# Altium integrated library Analog Devices Data Converters Analog-to-Digital Converters.IntLib: 2400 symbols (part 292 of 338)
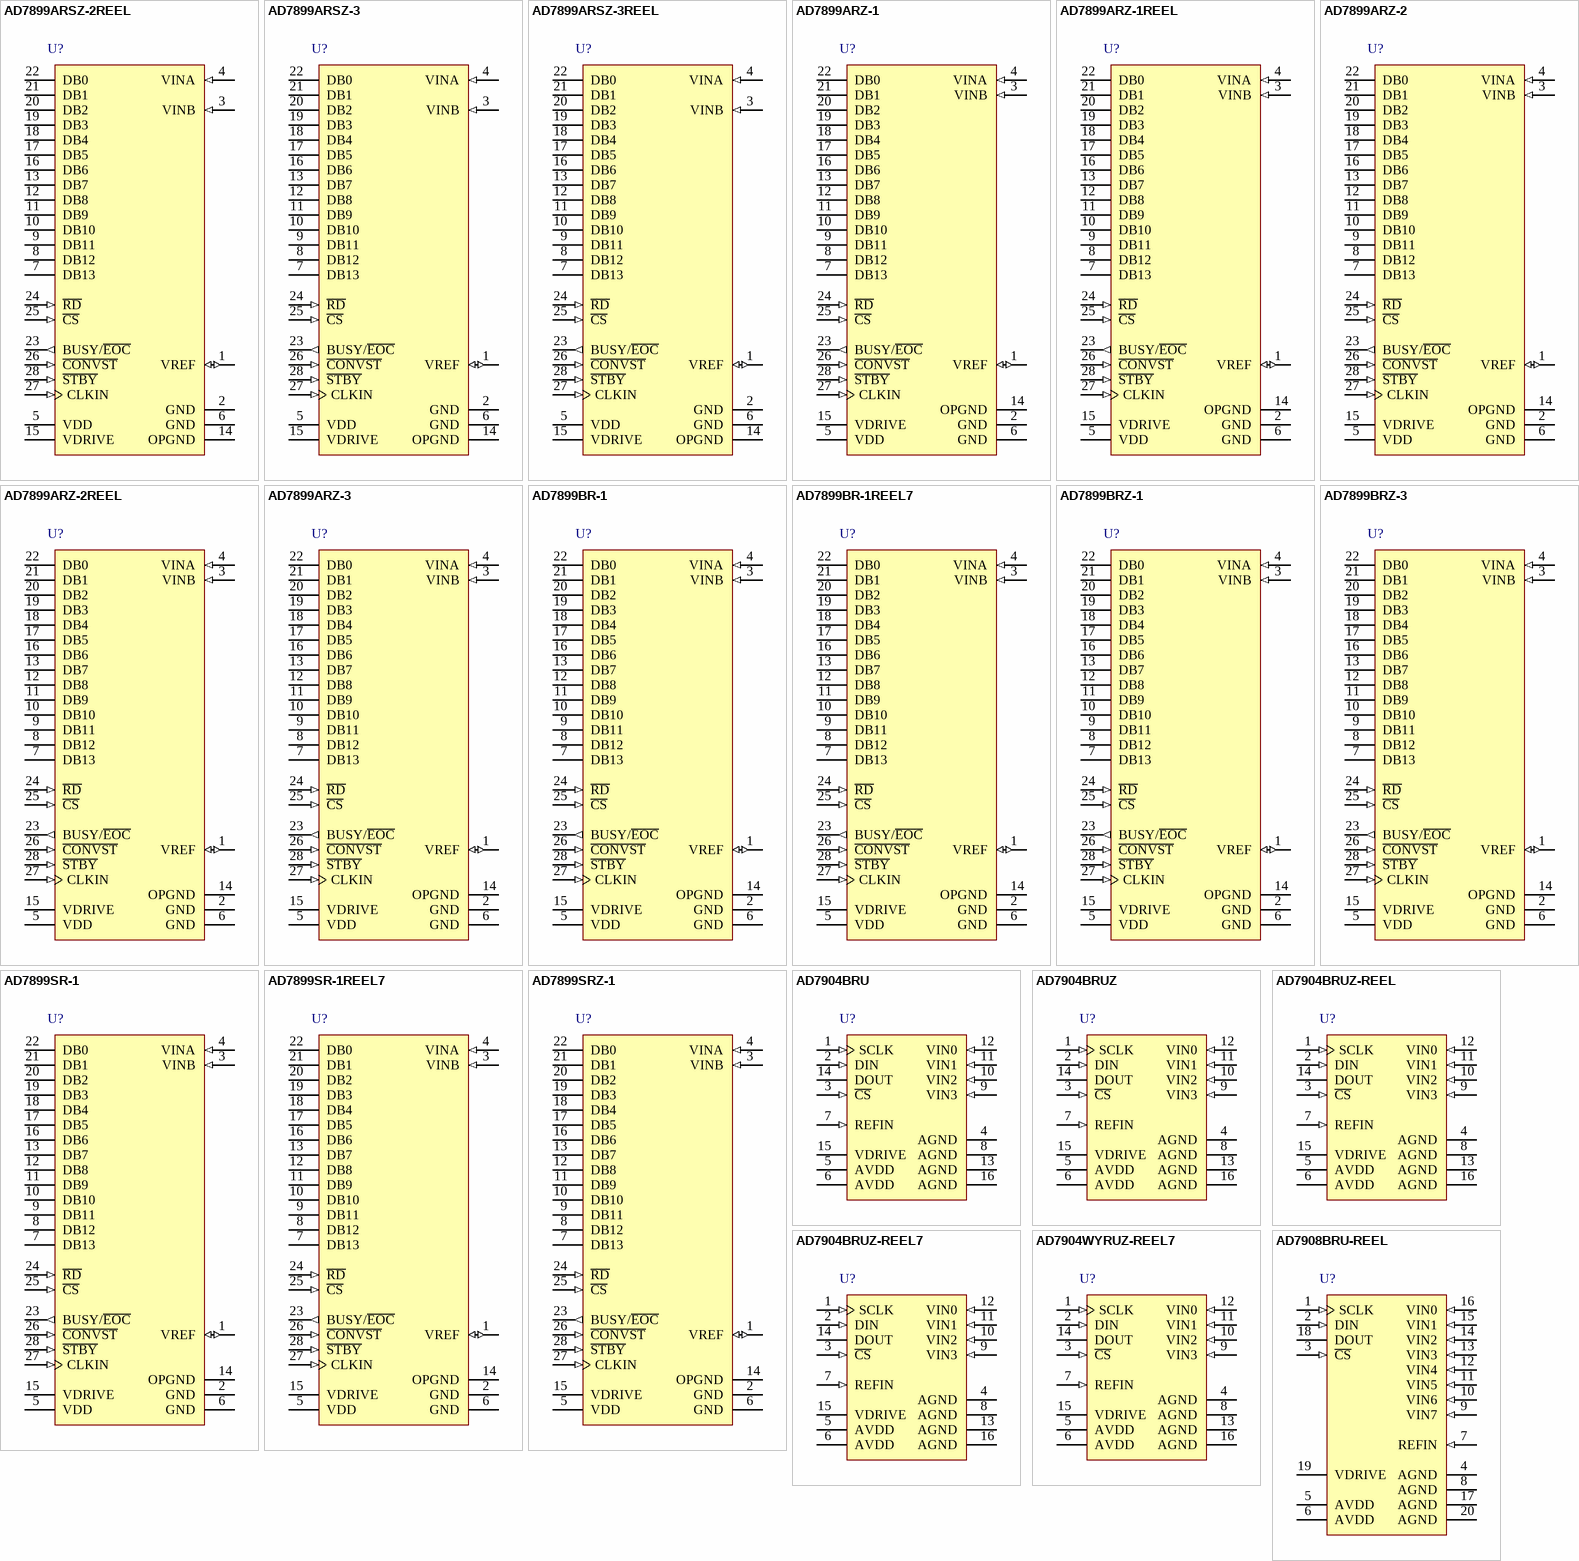
[diagram p314: symbols AD7899ARSZ-2REEL to AD7908BRU-REEL]

## AD7899SR-1
designator U?
Single 14-Bit Analog-to-Digital Converter with Parallel Interface, 5 V 400KSPS, -55 to +125 degC, RW-28, Tube; Part Number: AD7899; Manufacturer: Analog Devices; Resolution (Bits): 14; Channels: 1; Throughput Rate (SPS): 400K; Interface: Par; DatasheetVersion: Rev.A; PackageVersion: 060706-A; PackageReference: RW-28; PackageDescription: 28-Lead Standard Small Outline Package [SOIC_W]; RoHS: N; Packing: Tube; Mounting Technology: Surface Mount; Code_JEDEC: MS-013-AE; ComponentLink1Description: Manufacturer URL; ComponentLink1URL: http://www.analog.com/en/index.html; ComponentLink2Description: Datasheet; ComponentLink2URL: http://www.analog.com/static/imported-files/data_sheets/AD7899.pdf; ComponentLink3Description: Package Specification; ComponentLink3URL: http://www.analog.com/static/imported-files/packages/35833120341221RW_28.pdf; ComponentLink4Description: Product URL; ComponentLink4URL: http://www.analog.com/en/analog-to-digital-converters/ad-converters/ad7899/products/product.html
footprint RW-28_N (SOIC, 28-Leads, Body 17.9x7.5mm, Pitch 1.27mm, IPC Medium Density)
footprint RW-28_L (SOIC, 28-Leads, Body 17.9x7.5mm, Pitch 1.27mm, IPC High Density)
footprint RW-28_M (SOIC, 28-Leads, Body 17.9x7.5mm, Pitch 1.27mm, IPC Low Density)
pins: 1 VREF (io) "Reference Input/Output. This pin is provides access to the internal reference (2.5 V +/- 20 mV) and also allows the internal reference to be overdriven by an external reference source (2.5 V +/- 5%). A 0.1 uF decoupling (See Datasheet)", 2 GND (power) "Ground Pin. This pin should be connected to the system’s analog ground plane.", 3 VINB (in) "Analog Inputs. See Analog Input Section.", 4 VINA (in) "Analog Inputs. See Analog Input Section.", 5 VDD (power) "Positive Supply Voltage, 5.0 V +/- 5%.", 6 GND (power) "Ground Pin. This pin should be connected to the system’s analog ground plane.", 7 DB13 (hiz) "Data Bit 13 is the MSB, followed by Data Bit 12 to Data Bit 7. Three-state outputs.", 8 DB12 (hiz) "Data Bit 13 is the MSB, followed by Data Bit 12 to Data Bit 7. Three-state outputs.", 9 DB11 (hiz) "Data Bit 13 is the MSB, followed by Data Bit 12 to Data Bit 7. Three-state outputs.", 10 DB10 (hiz) "Data Bit 13 is the MSB, followed by Data Bit 12 to Data Bit 7. Three-state outputs.", 11 DB9 (hiz) "Data Bit 13 is the MSB, followed by Data Bit 12 to Data Bit 7. Three-state outputs.", 12 DB8 (hiz) "Data Bit 13 is the MSB, followed by Data Bit 12 to Data Bit 7. Three-state outputs.", 13 DB7 (hiz) "Data Bit 13 is the MSB, followed by Data Bit 12 to Data Bit 7. Three-state outputs.", 14 OPGND (power) "Output Driver Ground. This is the ground pin of the output drivers for D13 to D0 and BUSY/E\O\C\. It should be connected to the system’s analog ground plane .", 15 VDRIVE (power) "This pin provides the positive supply voltage for the digital inputs and outputs. It is normally tied to VDD but may also be powered by a 3 V +/- 10% supply which allows the inputs and outputs to be interfaced to 3 V (See Datasheet)", 16 DB6 (hiz) "Data Bit 6 to Data Bit 0. Three-state Outputs.", 17 DB5 (hiz) "Data Bit 6 to Data Bit 0. Three-state Outputs.", 18 DB4 (hiz) "Data Bit 6 to Data Bit 0. Three-state Outputs.", 19 DB3 (hiz) "Data Bit 6 to Data Bit 0. Three-state Outputs.", 20 DB2 (hiz) "Data Bit 6 to Data Bit 0. Three-state Outputs.", 21 DB1 (hiz) "Data Bit 6 to Data Bit 0. Three-state Outputs.", 22 DB0 (hiz) "Data Bit 6 to Data Bit 0. Three-state Outputs.", 23 BUSY/~{EOC} (out) "BUSY/E\O\C\ Output. Digital output pin used to signify that a conversion is in progress or that a conversion has finished. The function of the BUSY/E\O\C\ is determined by the state of C\O\N\V\S\T\ at the end of conversion. (See Datasheet)", 24 ~{RD} (in) "Read Input. Active low logic input which is used in conjunction with C\S\ low to enable the data outputs.", 25 ~{CS} (in) "Chip Select Input. Active low logic input. The device is selected when this input is active.", 26 ~{CONVST} (in) "Convert Start Input. Logic Input. A low to high transition on this input puts the track/hold into hold mode and starts conversion.", 27 CLKIN (in) "Conversion Clock Input. CLKIN is an externally applied clock which allows the user to control the conversion rate of the AD7899. If the CLKIN input is high on the rising edge of C\O\N\V\S\T\ an externally applied clock will (See Datasheet)", 28 ~{STBY} (in) "Standby Mode Input. Logic input which is used to put the device into the power save or standby mode. The S\T\B\Y\ input is high for normal operation and low for standby operation."

## AD7899SR-1REEL7
designator U?
Single 14-Bit Analog-to-Digital Converter with Parallel Interface, 5 V 400KSPS, -55 to +125 degC, RW-28, Reel; Part Number: AD7899; Manufacturer: Analog Devices; Resolution (Bits): 14; Channels: 1; Throughput Rate (SPS): 400K; Interface: Par; DatasheetVersion: Rev.A; PackageVersion: 060706-A; PackageReference: RW-28; PackageDescription: 28-Lead Standard Small Outline Package [SOIC_W]; RoHS: N; Packing: Reel; Mounting Technology: Surface Mount; Code_JEDEC: MS-013-AE; ComponentLink1Description: Manufacturer URL; ComponentLink1URL: http://www.analog.com/en/index.html; ComponentLink2Description: Datasheet; ComponentLink2URL: http://www.analog.com/static/imported-files/data_sheets/AD7899.pdf; ComponentLink3Description: Package Specification; ComponentLink3URL: http://www.analog.com/static/imported-files/packages/35833120341221RW_28.pdf; ComponentLink4Description: Product URL; ComponentLink4URL: http://www.analog.com/en/analog-to-digital-converters/ad-converters/ad7899/products/product.html
footprint RW-28_N (SOIC, 28-Leads, Body 17.9x7.5mm, Pitch 1.27mm, IPC Medium Density)
footprint RW-28_L (SOIC, 28-Leads, Body 17.9x7.5mm, Pitch 1.27mm, IPC High Density)
footprint RW-28_M (SOIC, 28-Leads, Body 17.9x7.5mm, Pitch 1.27mm, IPC Low Density)
pins: 1 VREF (io) "Reference Input/Output. This pin is provides access to the internal reference (2.5 V +/- 20 mV) and also allows the internal reference to be overdriven by an external reference source (2.5 V +/- 5%). A 0.1 uF decoupling (See Datasheet)", 2 GND (power) "Ground Pin. This pin should be connected to the system’s analog ground plane.", 3 VINB (in) "Analog Inputs. See Analog Input Section.", 4 VINA (in) "Analog Inputs. See Analog Input Section.", 5 VDD (power) "Positive Supply Voltage, 5.0 V +/- 5%.", 6 GND (power) "Ground Pin. This pin should be connected to the system’s analog ground plane.", 7 DB13 (hiz) "Data Bit 13 is the MSB, followed by Data Bit 12 to Data Bit 7. Three-state outputs.", 8 DB12 (hiz) "Data Bit 13 is the MSB, followed by Data Bit 12 to Data Bit 7. Three-state outputs.", 9 DB11 (hiz) "Data Bit 13 is the MSB, followed by Data Bit 12 to Data Bit 7. Three-state outputs.", 10 DB10 (hiz) "Data Bit 13 is the MSB, followed by Data Bit 12 to Data Bit 7. Three-state outputs.", 11 DB9 (hiz) "Data Bit 13 is the MSB, followed by Data Bit 12 to Data Bit 7. Three-state outputs.", 12 DB8 (hiz) "Data Bit 13 is the MSB, followed by Data Bit 12 to Data Bit 7. Three-state outputs.", 13 DB7 (hiz) "Data Bit 13 is the MSB, followed by Data Bit 12 to Data Bit 7. Three-state outputs.", 14 OPGND (power) "Output Driver Ground. This is the ground pin of the output drivers for D13 to D0 and BUSY/E\O\C\. It should be connected to the system’s analog ground plane .", 15 VDRIVE (power) "This pin provides the positive supply voltage for the digital inputs and outputs. It is normally tied to VDD but may also be powered by a 3 V +/- 10% supply which allows the inputs and outputs to be interfaced to 3 V (See Datasheet)", 16 DB6 (hiz) "Data Bit 6 to Data Bit 0. Three-state Outputs.", 17 DB5 (hiz) "Data Bit 6 to Data Bit 0. Three-state Outputs.", 18 DB4 (hiz) "Data Bit 6 to Data Bit 0. Three-state Outputs.", 19 DB3 (hiz) "Data Bit 6 to Data Bit 0. Three-state Outputs.", 20 DB2 (hiz) "Data Bit 6 to Data Bit 0. Three-state Outputs.", 21 DB1 (hiz) "Data Bit 6 to Data Bit 0. Three-state Outputs.", 22 DB0 (hiz) "Data Bit 6 to Data Bit 0. Three-state Outputs.", 23 BUSY/~{EOC} (out) "BUSY/E\O\C\ Output. Digital output pin used to signify that a conversion is in progress or that a conversion has finished. The function of the BUSY/E\O\C\ is determined by the state of C\O\N\V\S\T\ at the end of conversion. (See Datasheet)", 24 ~{RD} (in) "Read Input. Active low logic input which is used in conjunction with C\S\ low to enable the data outputs.", 25 ~{CS} (in) "Chip Select Input. Active low logic input. The device is selected when this input is active.", 26 ~{CONVST} (in) "Convert Start Input. Logic Input. A low to high transition on this input puts the track/hold into hold mode and starts conversion.", 27 CLKIN (in) "Conversion Clock Input. CLKIN is an externally applied clock which allows the user to control the conversion rate of the AD7899. If the CLKIN input is high on the rising edge of C\O\N\V\S\T\ an externally applied clock will (See Datasheet)", 28 ~{STBY} (in) "Standby Mode Input. Logic input which is used to put the device into the power save or standby mode. The S\T\B\Y\ input is high for normal operation and low for standby operation."

## AD7899SRZ-1
designator U?
Single 14-Bit Analog-to-Digital Converter with Parallel Interface, 5 V 400KSPS, -55 to +125 degC, RW-28, Pb-Free, Tube; Part Number: AD7899; Manufacturer: Analog Devices; Resolution (Bits): 14; Channels: 1; Throughput Rate (SPS): 400K; Interface: Par; DatasheetVersion: Rev.A; PackageVersion: 060706-A; PackageReference: RW-28; PackageDescription: 28-Lead Standard Small Outline Package [SOIC_W]; RoHS: Y; Packing: Tube; Mounting Technology: Surface Mount; Code_JEDEC: MS-013-AE; ComponentLink1Description: Manufacturer URL; ComponentLink1URL: http://www.analog.com/en/index.html; ComponentLink2Description: Datasheet; ComponentLink2URL: http://www.analog.com/static/imported-files/data_sheets/AD7899.pdf; ComponentLink3Description: Package Specification; ComponentLink3URL: http://www.analog.com/static/imported-files/packages/35833120341221RW_28.pdf; ComponentLink4Description: Product URL; ComponentLink4URL: http://www.analog.com/en/analog-to-digital-converters/ad-converters/ad7899/products/product.html
footprint RW-28_N (SOIC, 28-Leads, Body 17.9x7.5mm, Pitch 1.27mm, IPC Medium Density)
footprint RW-28_L (SOIC, 28-Leads, Body 17.9x7.5mm, Pitch 1.27mm, IPC High Density)
footprint RW-28_M (SOIC, 28-Leads, Body 17.9x7.5mm, Pitch 1.27mm, IPC Low Density)
pins: 1 VREF (io) "Reference Input/Output. This pin is provides access to the internal reference (2.5 V +/- 20 mV) and also allows the internal reference to be overdriven by an external reference source (2.5 V +/- 5%). A 0.1 uF decoupling (See Datasheet)", 2 GND (power) "Ground Pin. This pin should be connected to the system’s analog ground plane.", 3 VINB (in) "Analog Inputs. See Analog Input Section.", 4 VINA (in) "Analog Inputs. See Analog Input Section.", 5 VDD (power) "Positive Supply Voltage, 5.0 V +/- 5%.", 6 GND (power) "Ground Pin. This pin should be connected to the system’s analog ground plane.", 7 DB13 (hiz) "Data Bit 13 is the MSB, followed by Data Bit 12 to Data Bit 7. Three-state outputs.", 8 DB12 (hiz) "Data Bit 13 is the MSB, followed by Data Bit 12 to Data Bit 7. Three-state outputs.", 9 DB11 (hiz) "Data Bit 13 is the MSB, followed by Data Bit 12 to Data Bit 7. Three-state outputs.", 10 DB10 (hiz) "Data Bit 13 is the MSB, followed by Data Bit 12 to Data Bit 7. Three-state outputs.", 11 DB9 (hiz) "Data Bit 13 is the MSB, followed by Data Bit 12 to Data Bit 7. Three-state outputs.", 12 DB8 (hiz) "Data Bit 13 is the MSB, followed by Data Bit 12 to Data Bit 7. Three-state outputs.", 13 DB7 (hiz) "Data Bit 13 is the MSB, followed by Data Bit 12 to Data Bit 7. Three-state outputs.", 14 OPGND (power) "Output Driver Ground. This is the ground pin of the output drivers for D13 to D0 and BUSY/E\O\C\. It should be connected to the system’s analog ground plane .", 15 VDRIVE (power) "This pin provides the positive supply voltage for the digital inputs and outputs. It is normally tied to VDD but may also be powered by a 3 V +/- 10% supply which allows the inputs and outputs to be interfaced to 3 V (See Datasheet)", 16 DB6 (hiz) "Data Bit 6 to Data Bit 0. Three-state Outputs.", 17 DB5 (hiz) "Data Bit 6 to Data Bit 0. Three-state Outputs.", 18 DB4 (hiz) "Data Bit 6 to Data Bit 0. Three-state Outputs.", 19 DB3 (hiz) "Data Bit 6 to Data Bit 0. Three-state Outputs.", 20 DB2 (hiz) "Data Bit 6 to Data Bit 0. Three-state Outputs.", 21 DB1 (hiz) "Data Bit 6 to Data Bit 0. Three-state Outputs.", 22 DB0 (hiz) "Data Bit 6 to Data Bit 0. Three-state Outputs.", 23 BUSY/~{EOC} (out) "BUSY/E\O\C\ Output. Digital output pin used to signify that a conversion is in progress or that a conversion has finished. The function of the BUSY/E\O\C\ is determined by the state of C\O\N\V\S\T\ at the end of conversion. (See Datasheet)", 24 ~{RD} (in) "Read Input. Active low logic input which is used in conjunction with C\S\ low to enable the data outputs.", 25 ~{CS} (in) "Chip Select Input. Active low logic input. The device is selected when this input is active.", 26 ~{CONVST} (in) "Convert Start Input. Logic Input. A low to high transition on this input puts the track/hold into hold mode and starts conversion.", 27 CLKIN (in) "Conversion Clock Input. CLKIN is an externally applied clock which allows the user to control the conversion rate of the AD7899. If the CLKIN input is high on the rising edge of C\O\N\V\S\T\ an externally applied clock will (See Datasheet)", 28 ~{STBY} (in) "Standby Mode Input. Logic input which is used to put the device into the power save or standby mode. The S\T\B\Y\ input is high for normal operation and low for standby operation."

## AD7904BRU
designator U?
Quad 8-Bit Analog-to-Digital Converter with Serial, SPI Interface and Sequencer, 1MSPS, -40 to +85 degC, RU-16, Tube; Part Number: AD7904; Manufacturer: Analog Devices; Resolution (Bits): 8; Channels: 4; Throughput Rate (SPS): 1M; Interface: Ser, SPI; Automotive Qualified: Yes; DatasheetVersion: Rev.B; PackageVersion: Nov-2002; PackageReference: RU-16; PackageDescription: 16-Lead Thin Shrink Small Outline Package [TSSOP]; RoHS: N; Packing: Tube; Mounting Technology: Surface Mount; Code_JEDEC: MO-153-AB; ComponentLink1Description: Manufacturer URL; ComponentLink1URL: http://www.analog.com/en/index.html; ComponentLink2Description: Datasheet; ComponentLink2URL: http://www.analog.com/static/imported-files/data_sheets/AD7904_7914_7924.pdf; ComponentLink3Description: Package Specification; ComponentLink3URL: http://www.analog.com/static/imported-files/packages/36244347913743854010197452789RU16.pdf; ComponentLink4Description: Product URL; ComponentLink4URL: http://www.analog.com/en/analog-to-digital-converters/ad-converters/ad7904/products/product.html
footprint RU-16_N (TSOP, 16-Leads, Body 5x4.4mm, Pitch 0.65mm, IPC Medium Density)
footprint RU-16_L (TSOP, 16-Leads, Body 5x4.4mm, Pitch 0.65mm, IPC High Density)
footprint RU-16_M (TSOP, 16-Leads, Body 5x4.4mm, Pitch 0.65mm, IPC Low Density)
pins: 1 SCLK (in) "Serial Clock, Logic Input. SCLK provides the serial clock for accessing data from the part. This clock input is also used as the clock source for the AD7904/AD7914/AD7924 conversion process.", 2 DIN (in) "Data In, Logic Input. Data to be written to the control register of the AD7904/AD7914/AD7924 is provided on this input and is clocked into the register on the falling edge of SCLK (see the Control Register section).", 3 ~{CS} (in) "Chip Select. Active low logic input. This input provides the dual function of initiating conversions on the AD7904/AD7914/AD7924 and frames the serial data transfer.", 4 AGND (power) "Analog Ground. Ground reference point for all analog circuitry on the AD7904/AD7914/AD7924. All analog input signals and any external reference signal should be referred to this AGND voltage. All AGND pins should be (See Datasheet)", 5 AVDD (power) "Analog Power Supply Input. The AVDD range for the AD7904/AD7914/AD7924 is from 2.7 V to 5.25 V. For the 0 V to 2 x REFIN range, AVDD should be from 4.75 V to 5.25 V.", 6 AVDD (power) "Analog Power Supply Input. The AVDD range for the AD7904/AD7914/AD7924 is from 2.7 V to 5.25 V. For the 0 V to 2 x REFIN range, AVDD should be from 4.75 V to 5.25 V.", 7 REFIN (in) "Reference Input for the AD7904/AD7914/AD7924. An external reference must be applied to this input. The voltage range for the external reference is 2.5 V +/- 1% for specified performance.", 8 AGND (power) "Analog Ground. Ground reference point for all analog circuitry on the AD7904/AD7914/AD7924. All analog input signals and any external reference signal should be referred to this AGND voltage. All AGND pins should be (See Datasheet)", 9 VIN3 (in) "Analog Input 0 through Analog Input 3. The four single-ended analog input channels are multiplexed into the on-chip track-and-hold. The analog input channel to be converted is selected using the address bits ADD1 and ADD0 of (See Datasheet)", 10 VIN2 (in) "Analog Input 0 through Analog Input 3. The four single-ended analog input channels are multiplexed into the on-chip track-and-hold. The analog input channel to be converted is selected using the address bits ADD1 and ADD0 of (See Datasheet)", 11 VIN1 (in) "Analog Input 0 through Analog Input 3. The four single-ended analog input channels are multiplexed into the on-chip track-and-hold. The analog input channel to be converted is selected using the address bits ADD1 and ADD0 of (See Datasheet)", 12 VIN0 (in) "Analog Input 0 through Analog Input 3. The four single-ended analog input channels are multiplexed into the on-chip track-and-hold. The analog input channel to be converted is selected using the address bits ADD1 and ADD0 of (See Datasheet)", 13 AGND (power) "Analog Ground. Ground reference point for all analog circuitry on the AD7904/AD7914/AD7924. All analog input signals and any external reference signal should be referred to this AGND voltage. All AGND pins should be (See Datasheet)", 14 DOUT (hiz) "Data Out, Logic Output. The conversion result from the AD7904/AD7914/AD7924 is provided on this output as a serial data stream. The bits are clocked out on the falling edge of the SCLK input. The data stream from the AD7904 (See Datasheet)", 15 VDRIVE (power) "Logic Power Supply Input. The voltage supplied at this pin determines the voltage at which the serial interface of the AD7904/AD7914/AD7924 operates.", 16 AGND (power) "Analog Ground. Ground reference point for all analog circuitry on the AD7904/AD7914/AD7924. All analog input signals and any external reference signal should be referred to this AGND voltage. All AGND pins should be (See Datasheet)"

## AD7904BRUZ
designator U?
Quad 8-Bit Analog-to-Digital Converter with Serial, SPI Interface and Sequencer, 1MSPS, 0 to +70 degC, RU-16, Pb-Free, Tube; Part Number: AD7904; Manufacturer: Analog Devices; Resolution (Bits): 8; Channels: 4; Throughput Rate (SPS): 1M; Interface: Ser, SPI; Automotive Qualified: Yes; DatasheetVersion: Rev.B; PackageVersion: Nov-2002; PackageReference: RU-16; PackageDescription: 16-Lead Thin Shrink Small Outline Package [TSSOP]; RoHS: Y; Packing: Tube; Mounting Technology: Surface Mount; Code_JEDEC: MO-153-AB; ComponentLink1Description: Manufacturer URL; ComponentLink1URL: http://www.analog.com/en/index.html; ComponentLink2Description: Datasheet; ComponentLink2URL: http://www.analog.com/static/imported-files/data_sheets/AD7904_7914_7924.pdf; ComponentLink3Description: Package Specification; ComponentLink3URL: http://www.analog.com/static/imported-files/packages/36244347913743854010197452789RU16.pdf; ComponentLink4Description: Product URL; ComponentLink4URL: http://www.analog.com/en/analog-to-digital-converters/ad-converters/ad7904/products/product.html
footprint RU-16_N (TSOP, 16-Leads, Body 5x4.4mm, Pitch 0.65mm, IPC Medium Density)
footprint RU-16_L (TSOP, 16-Leads, Body 5x4.4mm, Pitch 0.65mm, IPC High Density)
footprint RU-16_M (TSOP, 16-Leads, Body 5x4.4mm, Pitch 0.65mm, IPC Low Density)
pins: 1 SCLK (in) "Serial Clock, Logic Input. SCLK provides the serial clock for accessing data from the part. This clock input is also used as the clock source for the AD7904/AD7914/AD7924 conversion process.", 2 DIN (in) "Data In, Logic Input. Data to be written to the control register of the AD7904/AD7914/AD7924 is provided on this input and is clocked into the register on the falling edge of SCLK (see the Control Register section).", 3 ~{CS} (in) "Chip Select. Active low logic input. This input provides the dual function of initiating conversions on the AD7904/AD7914/AD7924 and frames the serial data transfer.", 4 AGND (power) "Analog Ground. Ground reference point for all analog circuitry on the AD7904/AD7914/AD7924. All analog input signals and any external reference signal should be referred to this AGND voltage. All AGND pins should be (See Datasheet)", 5 AVDD (power) "Analog Power Supply Input. The AVDD range for the AD7904/AD7914/AD7924 is from 2.7 V to 5.25 V. For the 0 V to 2 x REFIN range, AVDD should be from 4.75 V to 5.25 V.", 6 AVDD (power) "Analog Power Supply Input. The AVDD range for the AD7904/AD7914/AD7924 is from 2.7 V to 5.25 V. For the 0 V to 2 x REFIN range, AVDD should be from 4.75 V to 5.25 V.", 7 REFIN (in) "Reference Input for the AD7904/AD7914/AD7924. An external reference must be applied to this input. The voltage range for the external reference is 2.5 V +/- 1% for specified performance.", 8 AGND (power) "Analog Ground. Ground reference point for all analog circuitry on the AD7904/AD7914/AD7924. All analog input signals and any external reference signal should be referred to this AGND voltage. All AGND pins should be (See Datasheet)", 9 VIN3 (in) "Analog Input 0 through Analog Input 3. The four single-ended analog input channels are multiplexed into the on-chip track-and-hold. The analog input channel to be converted is selected using the address bits ADD1 and ADD0 of (See Datasheet)", 10 VIN2 (in) "Analog Input 0 through Analog Input 3. The four single-ended analog input channels are multiplexed into the on-chip track-and-hold. The analog input channel to be converted is selected using the address bits ADD1 and ADD0 of (See Datasheet)", 11 VIN1 (in) "Analog Input 0 through Analog Input 3. The four single-ended analog input channels are multiplexed into the on-chip track-and-hold. The analog input channel to be converted is selected using the address bits ADD1 and ADD0 of (See Datasheet)", 12 VIN0 (in) "Analog Input 0 through Analog Input 3. The four single-ended analog input channels are multiplexed into the on-chip track-and-hold. The analog input channel to be converted is selected using the address bits ADD1 and ADD0 of (See Datasheet)", 13 AGND (power) "Analog Ground. Ground reference point for all analog circuitry on the AD7904/AD7914/AD7924. All analog input signals and any external reference signal should be referred to this AGND voltage. All AGND pins should be (See Datasheet)", 14 DOUT (hiz) "Data Out, Logic Output. The conversion result from the AD7904/AD7914/AD7924 is provided on this output as a serial data stream. The bits are clocked out on the falling edge of the SCLK input. The data stream from the AD7904 (See Datasheet)", 15 VDRIVE (power) "Logic Power Supply Input. The voltage supplied at this pin determines the voltage at which the serial interface of the AD7904/AD7914/AD7924 operates.", 16 AGND (power) "Analog Ground. Ground reference point for all analog circuitry on the AD7904/AD7914/AD7924. All analog input signals and any external reference signal should be referred to this AGND voltage. All AGND pins should be (See Datasheet)"

## AD7904BRUZ-REEL
designator U?
Quad 8-Bit Analog-to-Digital Converter with Serial, SPI Interface and Sequencer, 1MSPS, 0 to +70 degC, RU-16, Pb-Free, Reel; Part Number: AD7904; Manufacturer: Analog Devices; Resolution (Bits): 8; Channels: 4; Throughput Rate (SPS): 1M; Interface: Ser, SPI; Automotive Qualified: Yes; DatasheetVersion: Rev.B; PackageVersion: Nov-2002; PackageReference: RU-16; PackageDescription: 16-Lead Thin Shrink Small Outline Package [TSSOP]; RoHS: Y; Packing: Reel; Mounting Technology: Surface Mount; Code_JEDEC: MO-153-AB; ComponentLink1Description: Manufacturer URL; ComponentLink1URL: http://www.analog.com/en/index.html; ComponentLink2Description: Datasheet; ComponentLink2URL: http://www.analog.com/static/imported-files/data_sheets/AD7904_7914_7924.pdf; ComponentLink3Description: Package Specification; ComponentLink3URL: http://www.analog.com/static/imported-files/packages/36244347913743854010197452789RU16.pdf; ComponentLink4Description: Product URL; ComponentLink4URL: http://www.analog.com/en/analog-to-digital-converters/ad-converters/ad7904/products/product.html
footprint RU-16_N (TSOP, 16-Leads, Body 5x4.4mm, Pitch 0.65mm, IPC Medium Density)
footprint RU-16_L (TSOP, 16-Leads, Body 5x4.4mm, Pitch 0.65mm, IPC High Density)
footprint RU-16_M (TSOP, 16-Leads, Body 5x4.4mm, Pitch 0.65mm, IPC Low Density)
pins: 1 SCLK (in) "Serial Clock, Logic Input. SCLK provides the serial clock for accessing data from the part. This clock input is also used as the clock source for the AD7904/AD7914/AD7924 conversion process.", 2 DIN (in) "Data In, Logic Input. Data to be written to the control register of the AD7904/AD7914/AD7924 is provided on this input and is clocked into the register on the falling edge of SCLK (see the Control Register section).", 3 ~{CS} (in) "Chip Select. Active low logic input. This input provides the dual function of initiating conversions on the AD7904/AD7914/AD7924 and frames the serial data transfer.", 4 AGND (power) "Analog Ground. Ground reference point for all analog circuitry on the AD7904/AD7914/AD7924. All analog input signals and any external reference signal should be referred to this AGND voltage. All AGND pins should be (See Datasheet)", 5 AVDD (power) "Analog Power Supply Input. The AVDD range for the AD7904/AD7914/AD7924 is from 2.7 V to 5.25 V. For the 0 V to 2 x REFIN range, AVDD should be from 4.75 V to 5.25 V.", 6 AVDD (power) "Analog Power Supply Input. The AVDD range for the AD7904/AD7914/AD7924 is from 2.7 V to 5.25 V. For the 0 V to 2 x REFIN range, AVDD should be from 4.75 V to 5.25 V.", 7 REFIN (in) "Reference Input for the AD7904/AD7914/AD7924. An external reference must be applied to this input. The voltage range for the external reference is 2.5 V +/- 1% for specified performance.", 8 AGND (power) "Analog Ground. Ground reference point for all analog circuitry on the AD7904/AD7914/AD7924. All analog input signals and any external reference signal should be referred to this AGND voltage. All AGND pins should be (See Datasheet)", 9 VIN3 (in) "Analog Input 0 through Analog Input 3. The four single-ended analog input channels are multiplexed into the on-chip track-and-hold. The analog input channel to be converted is selected using the address bits ADD1 and ADD0 of (See Datasheet)", 10 VIN2 (in) "Analog Input 0 through Analog Input 3. The four single-ended analog input channels are multiplexed into the on-chip track-and-hold. The analog input channel to be converted is selected using the address bits ADD1 and ADD0 of (See Datasheet)", 11 VIN1 (in) "Analog Input 0 through Analog Input 3. The four single-ended analog input channels are multiplexed into the on-chip track-and-hold. The analog input channel to be converted is selected using the address bits ADD1 and ADD0 of (See Datasheet)", 12 VIN0 (in) "Analog Input 0 through Analog Input 3. The four single-ended analog input channels are multiplexed into the on-chip track-and-hold. The analog input channel to be converted is selected using the address bits ADD1 and ADD0 of (See Datasheet)", 13 AGND (power) "Analog Ground. Ground reference point for all analog circuitry on the AD7904/AD7914/AD7924. All analog input signals and any external reference signal should be referred to this AGND voltage. All AGND pins should be (See Datasheet)", 14 DOUT (hiz) "Data Out, Logic Output. The conversion result from the AD7904/AD7914/AD7924 is provided on this output as a serial data stream. The bits are clocked out on the falling edge of the SCLK input. The data stream from the AD7904 (See Datasheet)", 15 VDRIVE (power) "Logic Power Supply Input. The voltage supplied at this pin determines the voltage at which the serial interface of the AD7904/AD7914/AD7924 operates.", 16 AGND (power) "Analog Ground. Ground reference point for all analog circuitry on the AD7904/AD7914/AD7924. All analog input signals and any external reference signal should be referred to this AGND voltage. All AGND pins should be (See Datasheet)"

## AD7904BRUZ-REEL7
designator U?
Quad 8-Bit Analog-to-Digital Converter with Serial, SPI Interface and Sequencer, 1MSPS, 0 to +70 degC, RU-16, Pb-Free, Reel; Part Number: AD7904; Manufacturer: Analog Devices; Resolution (Bits): 8; Channels: 4; Throughput Rate (SPS): 1M; Interface: Ser, SPI; Automotive Qualified: Yes; DatasheetVersion: Rev.B; PackageVersion: Nov-2002; PackageReference: RU-16; PackageDescription: 16-Lead Thin Shrink Small Outline Package [TSSOP]; RoHS: Y; Packing: Reel; Mounting Technology: Surface Mount; Code_JEDEC: MO-153-AB; ComponentLink1Description: Manufacturer URL; ComponentLink1URL: http://www.analog.com/en/index.html; ComponentLink2Description: Datasheet; ComponentLink2URL: http://www.analog.com/static/imported-files/data_sheets/AD7904_7914_7924.pdf; ComponentLink3Description: Package Specification; ComponentLink3URL: http://www.analog.com/static/imported-files/packages/36244347913743854010197452789RU16.pdf; ComponentLink4Description: Product URL; ComponentLink4URL: http://www.analog.com/en/analog-to-digital-converters/ad-converters/ad7904/products/product.html
footprint RU-16_N (TSOP, 16-Leads, Body 5x4.4mm, Pitch 0.65mm, IPC Medium Density)
footprint RU-16_L (TSOP, 16-Leads, Body 5x4.4mm, Pitch 0.65mm, IPC High Density)
footprint RU-16_M (TSOP, 16-Leads, Body 5x4.4mm, Pitch 0.65mm, IPC Low Density)
pins: 1 SCLK (in) "Serial Clock, Logic Input. SCLK provides the serial clock for accessing data from the part. This clock input is also used as the clock source for the AD7904/AD7914/AD7924 conversion process.", 2 DIN (in) "Data In, Logic Input. Data to be written to the control register of the AD7904/AD7914/AD7924 is provided on this input and is clocked into the register on the falling edge of SCLK (see the Control Register section).", 3 ~{CS} (in) "Chip Select. Active low logic input. This input provides the dual function of initiating conversions on the AD7904/AD7914/AD7924 and frames the serial data transfer.", 4 AGND (power) "Analog Ground. Ground reference point for all analog circuitry on the AD7904/AD7914/AD7924. All analog input signals and any external reference signal should be referred to this AGND voltage. All AGND pins should be (See Datasheet)", 5 AVDD (power) "Analog Power Supply Input. The AVDD range for the AD7904/AD7914/AD7924 is from 2.7 V to 5.25 V. For the 0 V to 2 x REFIN range, AVDD should be from 4.75 V to 5.25 V.", 6 AVDD (power) "Analog Power Supply Input. The AVDD range for the AD7904/AD7914/AD7924 is from 2.7 V to 5.25 V. For the 0 V to 2 x REFIN range, AVDD should be from 4.75 V to 5.25 V.", 7 REFIN (in) "Reference Input for the AD7904/AD7914/AD7924. An external reference must be applied to this input. The voltage range for the external reference is 2.5 V +/- 1% for specified performance.", 8 AGND (power) "Analog Ground. Ground reference point for all analog circuitry on the AD7904/AD7914/AD7924. All analog input signals and any external reference signal should be referred to this AGND voltage. All AGND pins should be (See Datasheet)", 9 VIN3 (in) "Analog Input 0 through Analog Input 3. The four single-ended analog input channels are multiplexed into the on-chip track-and-hold. The analog input channel to be converted is selected using the address bits ADD1 and ADD0 of (See Datasheet)", 10 VIN2 (in) "Analog Input 0 through Analog Input 3. The four single-ended analog input channels are multiplexed into the on-chip track-and-hold. The analog input channel to be converted is selected using the address bits ADD1 and ADD0 of (See Datasheet)", 11 VIN1 (in) "Analog Input 0 through Analog Input 3. The four single-ended analog input channels are multiplexed into the on-chip track-and-hold. The analog input channel to be converted is selected using the address bits ADD1 and ADD0 of (See Datasheet)", 12 VIN0 (in) "Analog Input 0 through Analog Input 3. The four single-ended analog input channels are multiplexed into the on-chip track-and-hold. The analog input channel to be converted is selected using the address bits ADD1 and ADD0 of (See Datasheet)", 13 AGND (power) "Analog Ground. Ground reference point for all analog circuitry on the AD7904/AD7914/AD7924. All analog input signals and any external reference signal should be referred to this AGND voltage. All AGND pins should be (See Datasheet)", 14 DOUT (hiz) "Data Out, Logic Output. The conversion result from the AD7904/AD7914/AD7924 is provided on this output as a serial data stream. The bits are clocked out on the falling edge of the SCLK input. The data stream from the AD7904 (See Datasheet)", 15 VDRIVE (power) "Logic Power Supply Input. The voltage supplied at this pin determines the voltage at which the serial interface of the AD7904/AD7914/AD7924 operates.", 16 AGND (power) "Analog Ground. Ground reference point for all analog circuitry on the AD7904/AD7914/AD7924. All analog input signals and any external reference signal should be referred to this AGND voltage. All AGND pins should be (See Datasheet)"

## AD7904WYRUZ-REEL7
designator U?
Quad 8-Bit Analog-to-Digital Converter with Serial, SPI Interface and Sequencer, 1MSPS, -40 to +125 degC, RU-16, Pb-Free, Reel; Part Number: AD7904; Manufacturer: Analog Devices; Resolution (Bits): 8; Channels: 4; Throughput Rate (SPS): 1M; Interface: Ser, SPI; Automotive Qualified: Yes; DatasheetVersion: Rev.B; PackageVersion: Nov-2002; PackageReference: RU-16; PackageDescription: 16-Lead Thin Shrink Small Outline Package [TSSOP]; RoHS: Y; Packing: Reel; Mounting Technology: Surface Mount; Code_JEDEC: MO-153-AB; ComponentLink1Description: Manufacturer URL; ComponentLink1URL: http://www.analog.com/en/index.html; ComponentLink2Description: Datasheet; ComponentLink2URL: http://www.analog.com/static/imported-files/data_sheets/AD7904_7914_7924.pdf; ComponentLink3Description: Package Specification; ComponentLink3URL: http://www.analog.com/static/imported-files/packages/36244347913743854010197452789RU16.pdf; ComponentLink4Description: Product URL; ComponentLink4URL: http://www.analog.com/en/analog-to-digital-converters/ad-converters/ad7904/products/product.html
footprint RU-16_N (TSOP, 16-Leads, Body 5x4.4mm, Pitch 0.65mm, IPC Medium Density)
footprint RU-16_L (TSOP, 16-Leads, Body 5x4.4mm, Pitch 0.65mm, IPC High Density)
footprint RU-16_M (TSOP, 16-Leads, Body 5x4.4mm, Pitch 0.65mm, IPC Low Density)
pins: 1 SCLK (in) "Serial Clock, Logic Input. SCLK provides the serial clock for accessing data from the part. This clock input is also used as the clock source for the AD7904/AD7914/AD7924 conversion process.", 2 DIN (in) "Data In, Logic Input. Data to be written to the control register of the AD7904/AD7914/AD7924 is provided on this input and is clocked into the register on the falling edge of SCLK (see the Control Register section).", 3 ~{CS} (in) "Chip Select. Active low logic input. This input provides the dual function of initiating conversions on the AD7904/AD7914/AD7924 and frames the serial data transfer.", 4 AGND (power) "Analog Ground. Ground reference point for all analog circuitry on the AD7904/AD7914/AD7924. All analog input signals and any external reference signal should be referred to this AGND voltage. All AGND pins should be (See Datasheet)", 5 AVDD (power) "Analog Power Supply Input. The AVDD range for the AD7904/AD7914/AD7924 is from 2.7 V to 5.25 V. For the 0 V to 2 x REFIN range, AVDD should be from 4.75 V to 5.25 V.", 6 AVDD (power) "Analog Power Supply Input. The AVDD range for the AD7904/AD7914/AD7924 is from 2.7 V to 5.25 V. For the 0 V to 2 x REFIN range, AVDD should be from 4.75 V to 5.25 V.", 7 REFIN (in) "Reference Input for the AD7904/AD7914/AD7924. An external reference must be applied to this input. The voltage range for the external reference is 2.5 V +/- 1% for specified performance.", 8 AGND (power) "Analog Ground. Ground reference point for all analog circuitry on the AD7904/AD7914/AD7924. All analog input signals and any external reference signal should be referred to this AGND voltage. All AGND pins should be (See Datasheet)", 9 VIN3 (in) "Analog Input 0 through Analog Input 3. The four single-ended analog input channels are multiplexed into the on-chip track-and-hold. The analog input channel to be converted is selected using the address bits ADD1 and ADD0 of (See Datasheet)", 10 VIN2 (in) "Analog Input 0 through Analog Input 3. The four single-ended analog input channels are multiplexed into the on-chip track-and-hold. The analog input channel to be converted is selected using the address bits ADD1 and ADD0 of (See Datasheet)", 11 VIN1 (in) "Analog Input 0 through Analog Input 3. The four single-ended analog input channels are multiplexed into the on-chip track-and-hold. The analog input channel to be converted is selected using the address bits ADD1 and ADD0 of (See Datasheet)", 12 VIN0 (in) "Analog Input 0 through Analog Input 3. The four single-ended analog input channels are multiplexed into the on-chip track-and-hold. The analog input channel to be converted is selected using the address bits ADD1 and ADD0 of (See Datasheet)", 13 AGND (power) "Analog Ground. Ground reference point for all analog circuitry on the AD7904/AD7914/AD7924. All analog input signals and any external reference signal should be referred to this AGND voltage. All AGND pins should be (See Datasheet)", 14 DOUT (hiz) "Data Out, Logic Output. The conversion result from the AD7904/AD7914/AD7924 is provided on this output as a serial data stream. The bits are clocked out on the falling edge of the SCLK input. The data stream from the AD7904 (See Datasheet)", 15 VDRIVE (power) "Logic Power Supply Input. The voltage supplied at this pin determines the voltage at which the serial interface of the AD7904/AD7914/AD7924 operates.", 16 AGND (power) "Analog Ground. Ground reference point for all analog circuitry on the AD7904/AD7914/AD7924. All analog input signals and any external reference signal should be referred to this AGND voltage. All AGND pins should be (See Datasheet)"

## AD7908BRU-REEL
designator U?
Octal 8-Bit Analog-to-Digital Converter with Serial, SPI Interface and Sequencer, 1MSPS, -40 to +85 degC, RU-20, Reel; Part Number: AD7908; Manufacturer: Analog Devices; Resolution (Bits): 8; Throughput Rate (SPS): 1M; Interface: Ser, SPI; Automotive Qualified: Yes; DatasheetVersion: Rev.D; PackageVersion: 2000; PackageReference: RU-20; PackageDescription: 20-Lead Thin Shrink Small Outline Package [TSSOP]; Channels: 8; RoHS: N; Packing: Reel; Mounting Technology: Surface Mount; Code_JEDEC: MO-153AC; ComponentLink1Description: Manufacturer URL; ComponentLink1URL: http://www.analog.com/en/index.html; ComponentLink2Description: Datasheet; ComponentLink2URL: http://www.analog.com/static/imported-files/data_sheets/AD7908_7918_7928.pdf; ComponentLink3Description: Package Specification; ComponentLink3URL: http://www.analog.com/static/imported-files/packages/364515793657813558433715854054607941441RU20.pdf; ComponentLink4Description: Product URL; ComponentLink4URL: http://www.analog.com/en/analog-to-digital-converters/ad-converters/ad7908/products/product.html
footprint RU-20_N (TSOP, 20-Leads, Body 6.5x4.4mm, Pitch 0.65mm, IPC Medium Density)
footprint RU-20_L (TSOP, 20-Leads, Body 6.5x4.4mm, Pitch 0.65mm, IPC High Density)
footprint RU-20_M (TSOP, 20-Leads, Body 6.5x4.4mm, Pitch 0.65mm, IPC Low Density)
pins: 1 SCLK (in) "Serial Clock. Logic input. SCLK provides the serial clock for accessing data from the part. This clock input is also used as the clock source for the conversion process of the AD7908/AD7918/AD7928.", 2 DIN (in) "Data In. Logic input. Data to be written to the control register of the  AD7908/AD7918/AD7928 is provided on this input and is clocked into the register on the falling edge of SCLK (see the Control Register section).", 3 ~{CS} (in) "Chip Select. Active low logic input. This input provides the dual function of initiating conversions on the AD7908/AD7918/AD7928, and also frames the serial data transfer.", 4 AGND (power) "Analog Ground. This is the ground reference point for all analog circuitry on the AD7908/AD7918/AD7928. All analog input signals and any external reference signal should be referred to this AGND voltage. All AGND pins should (See Datasheet)", 5 AVDD (power) "Analog Power Supply Input. The AVDD range for the AD7908/AD7918/AD7928 is from 2.7 V to 5.25 V. For the 0 V to 2 x REFIN range, AVDD should be from 4.75 V to 5.25 V.", 6 AVDD (power) "Analog Power Supply Input. The AVDD range for the AD7908/AD7918/AD7928 is from 2.7 V to 5.25 V. For the 0 V to 2 x REFIN range, AVDD should be from 4.75 V to 5.25 V.", 7 REFIN (in) "Reference Input for the AD7908/AD7918/AD7928. An external reference must be applied to this input. The voltage range for the external reference is 2.5 V +/- 1% for specified performance.", 8 AGND (power) "Analog Ground. This is the ground reference point for all analog circuitry on the AD7908/AD7918/AD7928. All analog input signals and any external reference signal should be referred to this AGND voltage. All AGND pins should (See Datasheet)", 9 VIN7 (in) "Analog Input 7. These are eight single-ended analog input channels that are multiplexed into the on-chip track-and-hold. The analog input channel to be converted is selected by using Address Bit ADD2 through Address Bit ADD0 (See Datasheet)", 10 VIN6 (in) "Analog Input 6. These are eight single-ended analog input channels that are multiplexed into the on-chip track-and-hold. The analog input channel to be converted is selected by using Address Bit ADD2 through Address Bit ADD0 (See Datasheet)", 11 VIN5 (in) "Analog Input 5. These are eight single-ended analog input channels that are multiplexed into the on-chip track-and-hold. The analog input channel to be converted is selected by using Address Bit ADD2 through Address Bit ADD0 (See Datasheet)", 12 VIN4 (in) "Analog Input 4. These are eight single-ended analog input channels that are multiplexed into the on-chip track-and-hold. The analog input channel to be converted is selected by using Address Bit ADD2 through Address Bit ADD0 (See Datasheet)", 13 VIN3 (in) "Analog Input 3. These are eight single-ended analog input channels that are multiplexed into the on-chip track-and-hold. The analog input channel to be converted is selected by using Address Bit ADD2 through Address Bit ADD0 (See Datasheet)", 14 VIN2 (in) "Analog Input 2. These are eight single-ended analog input channels that are multiplexed into the on-chip track-and-hold. The analog input channel to be converted is selected by using Address Bit ADD2 through Address Bit ADD0 (See Datasheet)", 15 VIN1 (in) "Analog Input 1. These are eight single-ended analog input channels that are multiplexed into the on-chip track-and-hold. The analog input channel to be converted is selected by using Address Bit ADD2 through Address Bit ADD0 (See Datasheet)", 16 VIN0 (in) "Analog Input 0. These are eight single-ended analog input channels that are multiplexed into the on-chip track-and-hold. The analog input channel to be converted is selected by using Address Bit ADD2 through Address Bit ADD0 (See Datasheet)", 17 AGND (power) "Analog Ground. This is the ground reference point for all analog circuitry on the AD7908/AD7918/AD7928. All analog input signals and any external reference signal should be referred to this AGND voltage. All AGND pins should (See Datasheet)", 18 DOUT (hiz) "Data Out. Logic output. The conversion result from the AD7908/AD7918/AD7928 is provided on this output as a serial data stream. The bits are clocked out on the falling edge of the SCLK input. The data stream from the AD7908 (See Datasheet)", 19 VDRIVE (power) "Logic Power Supply Input. The voltage supplied at this pin determines at what voltage the serial interface of the AD7908/AD7918/AD7928 operates.", 20 AGND (power) "Analog Ground. This is the ground reference point for all analog circuitry on the AD7908/AD7918/AD7928. All analog input signals and any external reference signal should be referred to this AGND voltage. All AGND pins should (See Datasheet)"

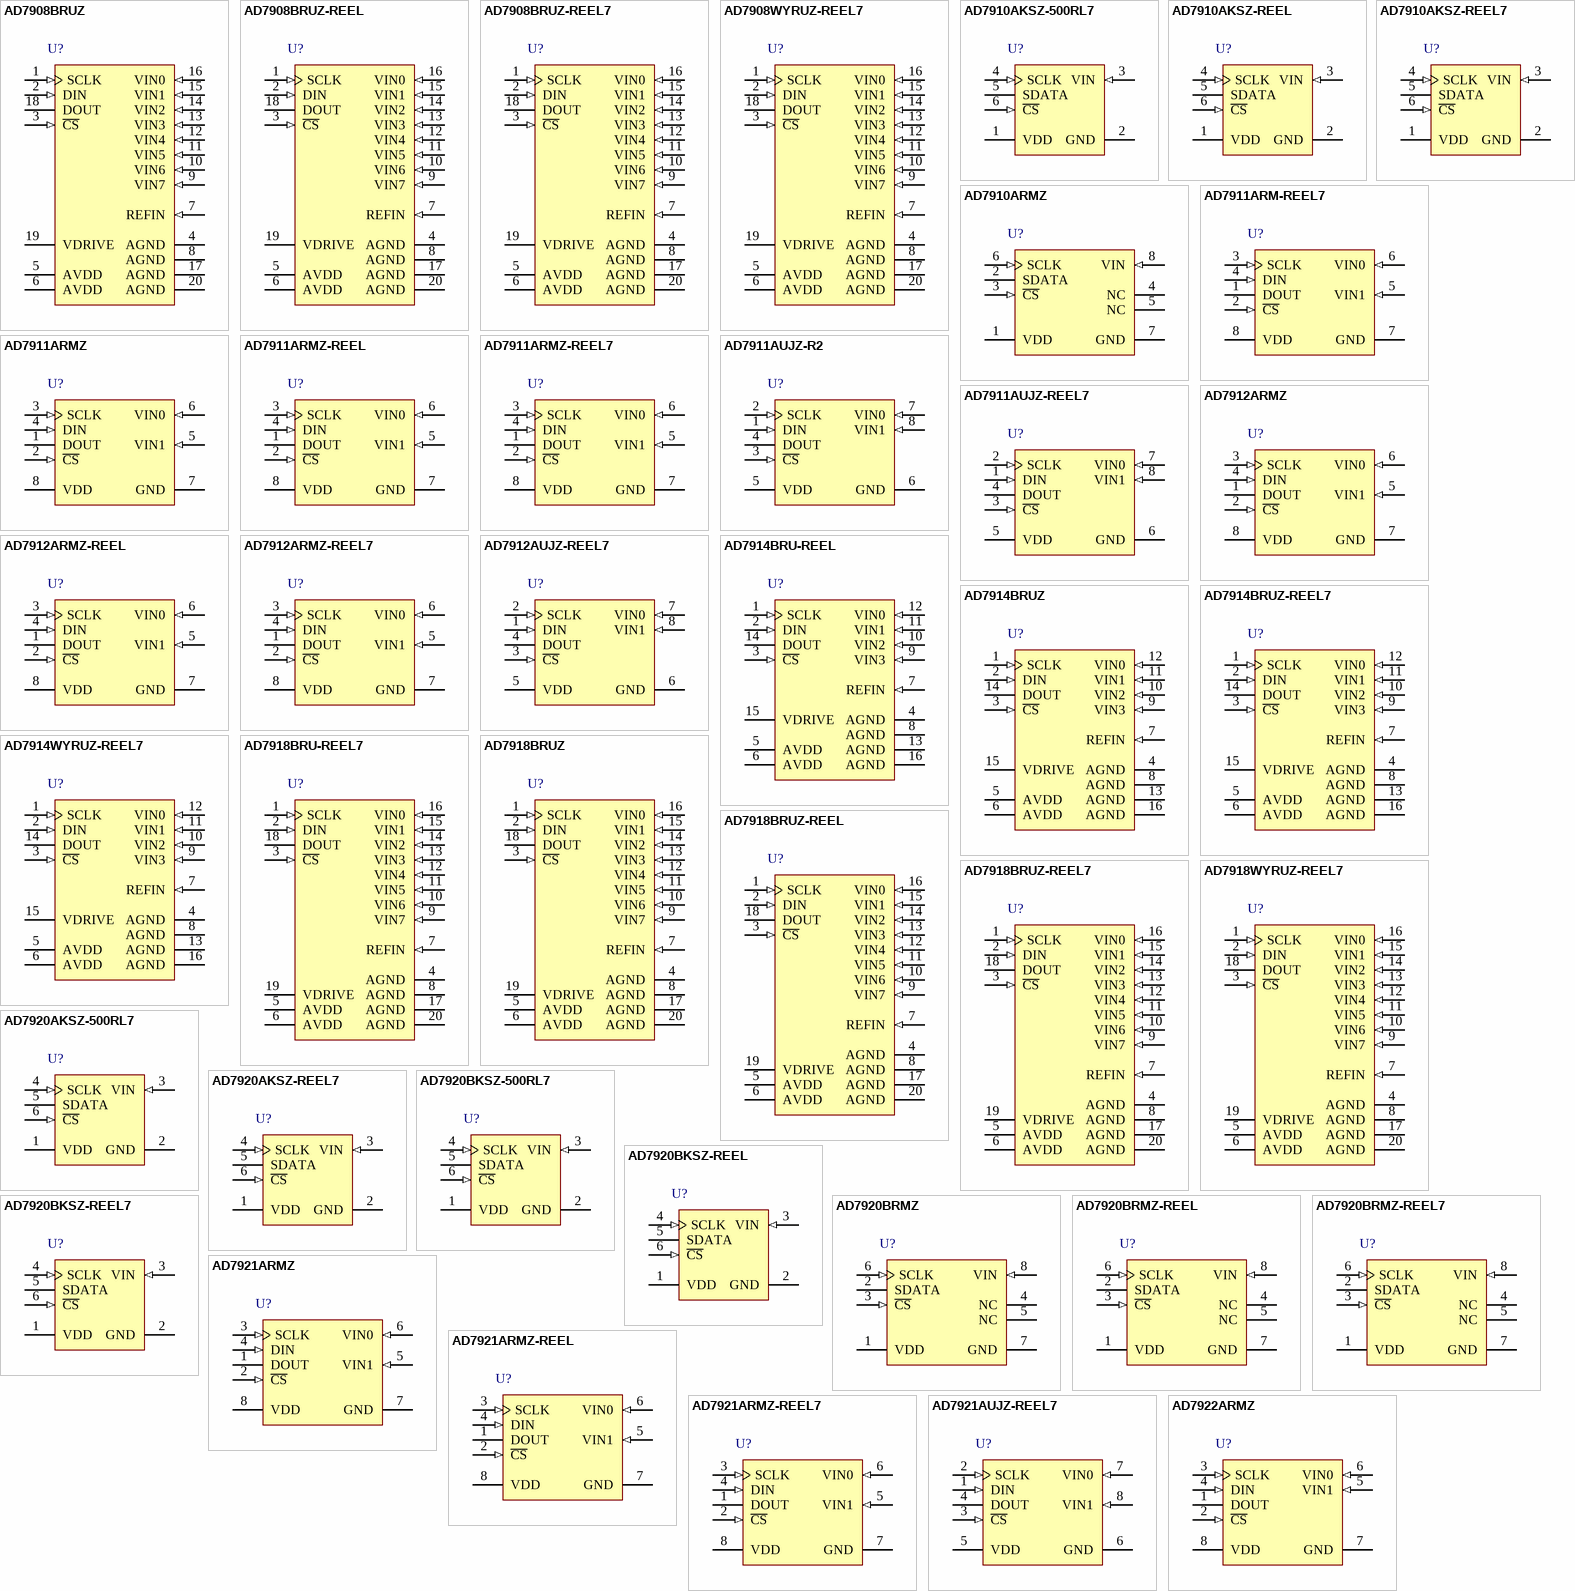
[diagram p89: symbols AD7908BRUZ to AD7922ARMZ]